# Altium schematic symbol library SchlibDevices.SchLib: 2 symbols
Pins are listed as number, name and electrical type; pins without a type are passive.

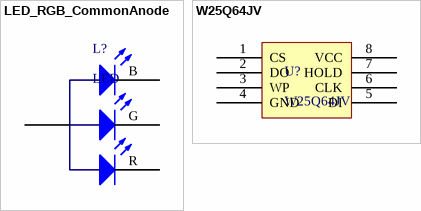
[diagram p0: symbols LED_RGB_CommonAnode to W25Q64JV]

## LED_RGB_CommonAnode
designator L?, comment LED
footprint LED_3528_RGB
pins: 1, B 2, G 3, R 4

## W25Q64JV
designator U?
footprint W25Q SOP8 (SOIC, 8-Leads, Body 5.29x5.30mm, Pitch 1.27mm, IPC Medium Density)
pins: 1 CS, 2 DO, 3 WP, 4 GND, 5 DI, 6 CLK, 7 HOLD, 8 VCC